# Altium footprint library STM32103C8T6_NEW1.PcbLib: 14 footprints
Each footprint in its own frame and in the unit in brackets; x right, y up, seen from the top. Pads: shape width x height; smd on the part's side, far side on the other; paste and mask are expansions set on the pad; w line width, h text height; cw(c..) or ccw(c..) is an arc to the next point about the centre after c.
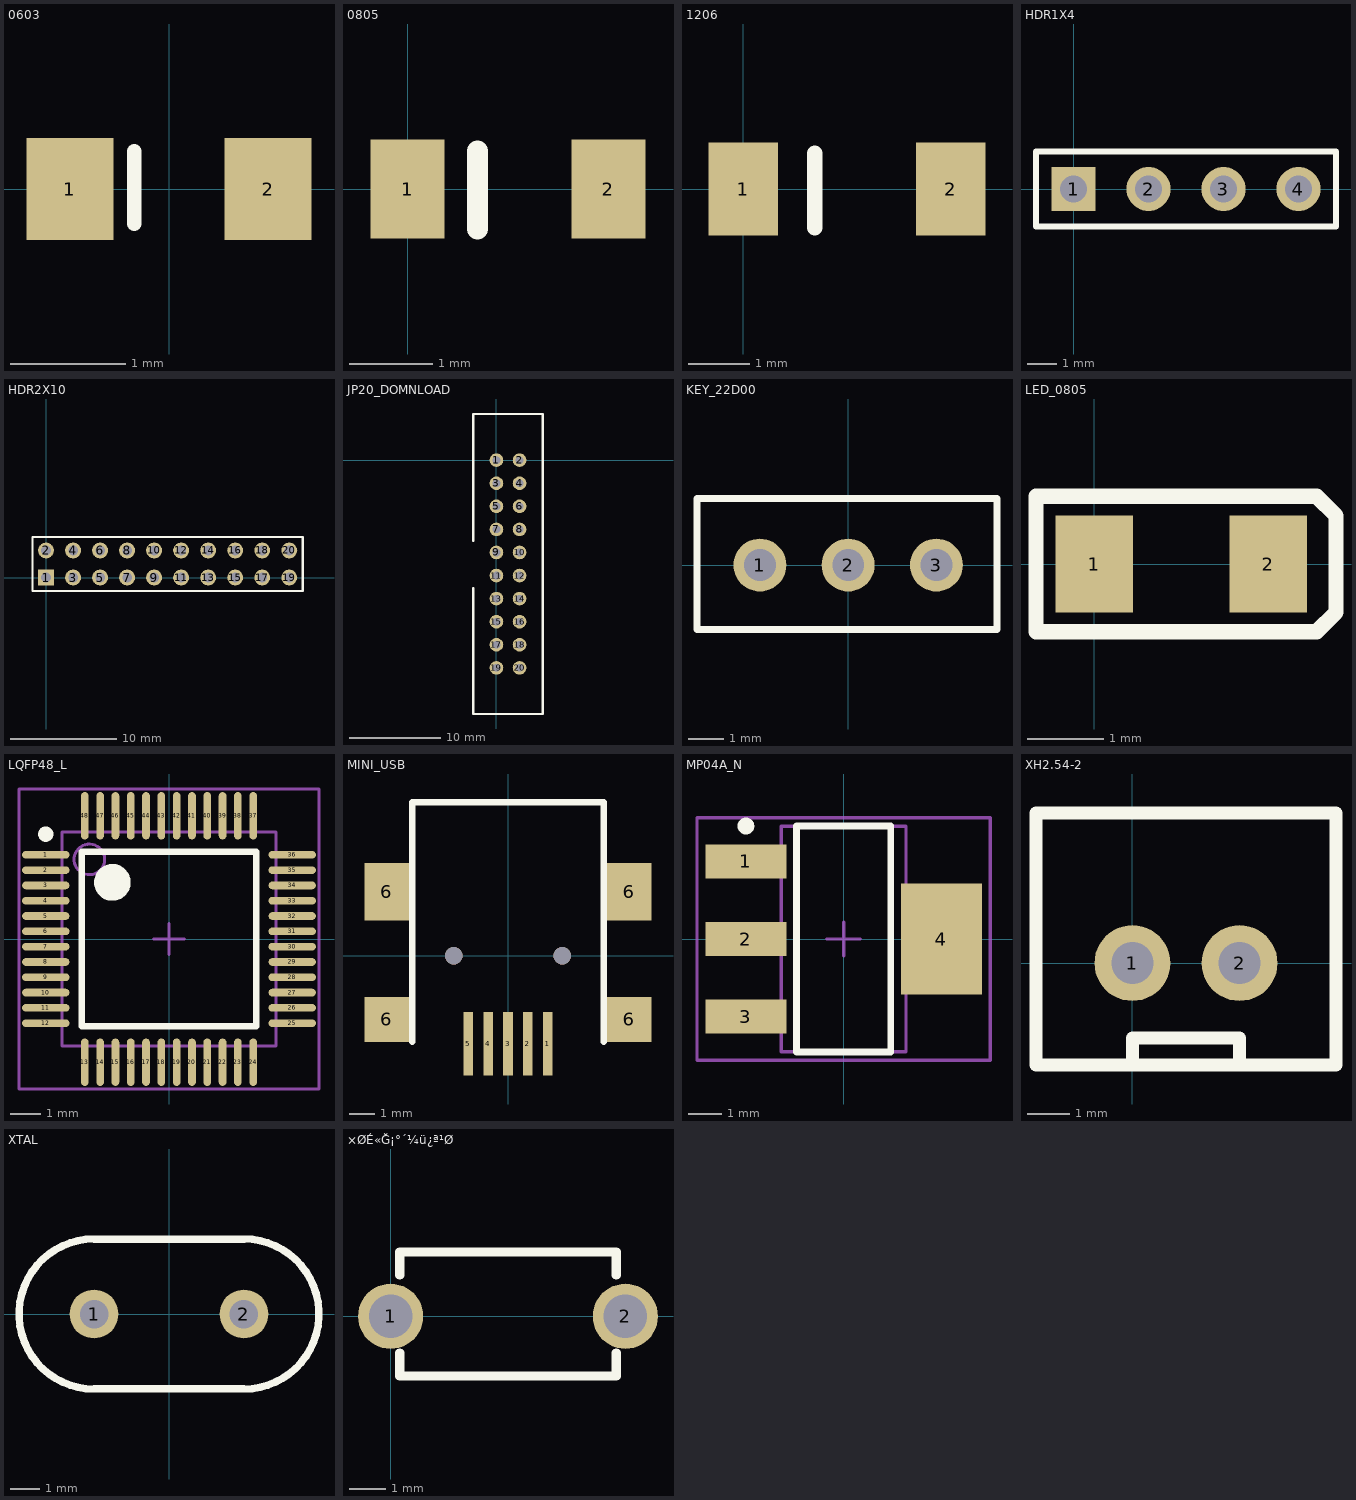
[diagram p0: the footprints below, top view; thin cyan lines are the x and y axes]

## 0603 [mil]
height 43.31
pads (2):
  rect 30x35 smd: 1(-34,0) 2(34,0)
Top Overlay:
  lines w5: -12,-12 -12,13

## 0805 [mil]
height 133.86
pads (2):
  rect 35x47 smd: 1(0,0) 2(95,0)
Top Overlay:
  lines w10: 33,-19 33,18

## 1206 [mil]
height 133.86
pads (2):
  rect 45x60 smd: 1(0,0) 2(134,0)
Top Overlay:
  lines w10: 46,-25 46,23

## HDR1X4 [mm] "Connector; Header; 4 Position"
height 1.1
pads (4):
  rect 1.5x1.5 hole 0.9: 1(0,0)
  round 1.5 hole 0.9: 2(2.54,0) 3(5.08,0) 4(7.62,0)
Top Overlay:
  lines w0.2: -1.27,-1.27 8.89,-1.27 8.89,1.27 -1.27,1.27 -1.27,-1.27

## HDR2X10 [mm] "Connector; Header; 10x2 Position"
height 1.1
pads (20):
  rect 1.5x1.5 hole 0.9: 1(0,0)
  round 1.5 hole 0.9: 2(0,2.54) 3(2.54,0) 4(2.54,2.54) 5(5.08,0) 6(5.08,2.54) 7(7.62,0) 8(7.62,2.54) 9(10.16,0) 10(10.16,2.54) 11(12.7,0) 12(12.7,2.54) 13(15.24,0) 14(15.24,2.54) 15(17.78,0) 16(17.78,2.54) 17(20.32,0) 18(20.32,2.54) 19(22.86,0) 20(22.86,2.54)
Top Overlay:
  lines w0.2: -1.27,-1.27 -1.27,3.81 0.635,3.81 24.13,3.81 24.13,-1.27 0.635,-1.27 -1.27,-1.27

## JP20_DOMNLOAD [mm]
height 3.4
pads (20):
  round 1.5 hole 0.85: 1(0,0) 2(2.54,0) 3(0,-2.54) 4(2.54,-2.54) 5(0,-5.08) 6(2.54,-5.08) 7(0,-7.62) 8(2.54,-7.62) 9(0,-10.16) 10(2.54,-10.16) 11(0,-12.7) 12(2.54,-12.7) 13(0,-15.24) 14(2.54,-15.24) 15(0,-17.78) 16(2.54,-17.78) 17(0,-20.32) 18(2.54,-20.32) 19(0,-22.86) 20(2.54,-22.86)
Top Overlay:
  lines w0.254: -2.54,-14.097 -2.54,-27.94 5.08,-27.94 5.08,5.08 -2.54,5.08 -2.54,-8.89

## KEY_22D00 [mm]
pads (3):
  round 1.5 hole 0.9: 1(-2.5,0) 2(0,0) 3(2.5,0)
Top Overlay:
  lines w0.2: -4.284,-1.82 -4.284,1.88 4.216,1.88 4.216,-1.82 -4.284,-1.82

## LED_0805 [mil]
height 43.31
pads (2):
  rect 40x50 smd: 1(0,0) 2(90,0)
Top Overlay:
  lines w8: -30,-35 90,-35 115,-35 125,-25 125,25 115,35 -30,35 -30,-35

## LQFP48_L [mm]
height 1.1
pads (48):
  oval 1.55x0.25 smd: 1(-4.025,2.75) 2(-4.025,2.25) 3(-4.025,1.75) 4(-4.025,1.25) 5(-4.025,0.75) 6(-4.025,0.25) 7(-4.025,-0.25) 8(-4.025,-0.75) 9(-4.025,-1.25) 10(-4.025,-1.75) 11(-4.025,-2.25) 12(-4.025,-2.75) 25(4.025,-2.75) 26(4.025,-2.25) 27(4.025,-1.75) 28(4.025,-1.25) 29(4.025,-0.75) 30(4.025,-0.25) 31(4.025,0.25) 32(4.025,0.75) 33(4.025,1.25) 34(4.025,1.75) 35(4.025,2.25) 36(4.025,2.75)
  oval 0.25x1.55 smd: 13(-2.75,-4.025) 14(-2.25,-4.025) 15(-1.75,-4.025) 16(-1.25,-4.025) 17(-0.75,-4.025) 18(-0.25,-4.025) 19(0.25,-4.025) 20(0.75,-4.025) 21(1.25,-4.025) 22(1.75,-4.025) 23(2.25,-4.025) 24(2.75,-4.025) 37(2.75,4.025) 38(2.25,4.025) 39(1.75,4.025) 40(1.25,4.025) 41(0.75,4.025) 42(0.25,4.025) 43(-0.25,4.025) 44(-0.75,4.025) 45(-1.25,4.025) 46(-1.75,4.025) 47(-2.25,4.025) 48(-2.75,4.025)
Top Overlay:
  circle w0.6: c-1.85,1.85 r0.3
  circle w0.25: c-4.025,3.425 r0.125
  lines w0.2: -2.85,-2.85 2.85,-2.85 2.85,2.85 -2.85,2.85 -2.85,-2.85
Mechanical 13:
  circle w0.1: c-2.6,2.6 r0.5
  lines w0.1: -3.5,-3.5 3.5,-3.5 3.5,3.5 -3.5,3.5 -3.5,-3.5
Mechanical 15:
  lines w0.1: -0.5,0 0.5,0 ; 0,-0.5 0,0.5 ; -4.9,-4.9 4.9,-4.9 4.9,4.9 -4.9,4.9 -4.9,-4.9

## MINI_USB [mil]
height 43.31
pads (9):
  rect 15x100 smd: 1(62,-138) 2(31,-138) 3(0,-138) 4(-31,-138) 5(-62,-138)
  rect 70x70 smd: 6(-190,-100) 6(190,-100)
  rect 70x90 smd: 6(-190,100) 6(190,100)
via 85,0 diameter 27.56 hole 27.56
via -85,0 diameter 27.56 hole 27.56
Top Overlay:
  lines w10: -150,-135 -150,240 150,240 150,-135

## MP04A_N [mm] "SOT223, 4-Leads, Body 6.5x3.5mm, Pitch 2.3mm, Lead Span 7mm, IPC Medium Density"
height 1.8
pads (4):
  rect 2.4x1 smd: 1(-2.9,2.3) 2(-2.9,0) 3(-2.9,-2.3)
  rect 2.4x3.3 smd: 4(2.9,0)
Top Overlay:
  circle w0.25: c-2.9,3.35 r0.125
  lines w0.2: -1.4,-3.35 1.4,-3.35 1.4,3.35 -1.4,3.35 -1.4,-3.35
Mechanical 13:
  lines w0.1: -1.85,-3.35 1.85,-3.35 1.85,3.35 -1.85,3.35 -1.85,-3.35
Mechanical 15:
  lines w0.1: -0.5,0 0.5,0 ; 0,-0.5 0,0.5 ; -4.35,-3.6 4.35,-3.6 4.35,3.6 -4.35,3.6 -4.35,-3.6
3D body: height 1.8, standoff 0, extent -1.85,-3.35 1.85,3.35

## XH2.54-2 [mm]
height 1.1
pads (2):
  round 1.8 hole 1: 1(0,0) 2(2.54,0)
Top Overlay:
  lines w0.305: 0,-2.337 0,-1.778 2.54,-1.778 2.54,-2.337 ; -2.286,-2.413 -2.286,3.556 4.826,3.556 4.826,-2.413 -2.286,-2.413

## XTAL [mil]
height 133.86
pads (2):
  round 65 hole 38: 1(-100,0) 2(100,0)
Top Overlay:
  lines w10: -100,-100 cw(c-100,0) -100,100 100,100 cw(c100,0) 100,-100 -100,-100

## ×ØÉ«Ğ¡°´¼ü¿ª¹Ø [mm]
pads (2):
  round 1.8 hole 1.2: 1(0,0) 2(6.477,0)
Top Overlay:
  lines w0.254: 0.254,-1.016 0.254,-1.651 6.223,-1.651 6.223,-1.016 ; 0.254,1.143 0.254,1.778 6.223,1.778 6.223,1.143